# EAGLE library part 30320-6002HB (library 30320-6002HB)
Header 20 position 3M 303 Series, 2.54mm Pitch 20 Way 2 Row Shrouded Straight PCB Header, Through Hole, Solder Termination <https://componentsearchengine.com/Images/3/30320-6002HB.jpg> Source: Datasheet <http://multimedia.3m.com/mws/media/22504O/3mtm-100-in-loprof-hdr-100x-100strt-ra-4-wall-ts0818.pdf>
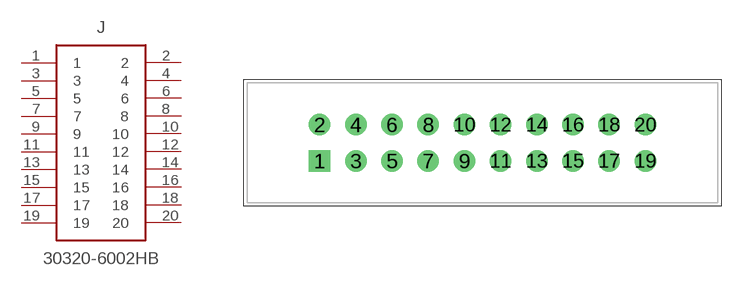
[diagram p0: symbol with the pads of SHDR20W81P254_2X10_3300X840X93; footprint SHDR20W81P254_2X10_3300X840X93]

Designator prefix J

## 30320-6002HB (Description: Header 20 position 3M 303 Series, 2.54mm Pitch 20 Way 2 Row Shrouded Straight PCB Header, Through Hole, Solder Termination; Height: 9.3mm; Manufacturer_Name: 3M; Manufacturer_Part_Number: 30320-6002HB; RS_Part_Number: 8273587; Supplier_Name: RS)  [SHDR20W81P254_2X10_3300X840X93]
1  1  pas
2  2  pas
3  3  pas
4  4  pas
5  5  pas
6  6  pas
7  7  pas
8  8  pas
9  9  pas
10  10  pas
11  11  pas
12  12  pas
13  13  pas
14  14  pas
15  15  pas
16  16  pas
17  17  pas
18  18  pas
19  19  pas
20  20  pas

## Footprint SHDR20W81P254_2X10_3300X840X93 (pad centres in mm)
30320-6002HB
drill 1 pad 1.5 square: 1 0,0
drill 1 pad 1.5: 2 0,2.54; 3 2.54,0; 4 2.54,2.54; 5 5.08,0; 6 5.08,2.54; 7 7.62,0; 8 7.62,2.54; 9 10.16,0; 10 10.16,2.54; 11 12.7,0; 12 12.7,2.54; 13 15.24,0; 14 15.24,2.54; 15 17.78,0; 16 17.78,2.54; 17 20.32,0; 18 20.32,2.54; 19 22.86,0; 20 22.86,2.54